# Altium integrated library SRD-05VDC-SL-C.IntLib: 1 symbol
Pins are listed as number, name and electrical type; pins without a type are passive.

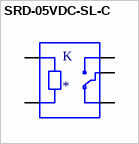
[diagram p0: symbol SRD-05VDC-SL-C]

## SRD-05VDC-SL-C
designator K
5V Trigger Relay Module For Arduino And Raspberry Pi 5V Trigger Relay Module For Arduino And Raspberry Pi; MP: SRD-05VDC-SL-C; MF: Songle Relay; Package: None; Availability: Unavailable; Value: *; SnapEDA_Link: https://www.snapeda.com/parts/SRD-05VDC-SL-C/Songle%20Relay/view-part/1029484/?ref=snap; Price: None
footprint RELAY_SRD-05VDC-SL-C
pins: A1, A2, COM, NC, NO